# EAGLE library part 102A0-6212PC (library 3M_By_element14_Batch_1)
Mini Ribbon Connector
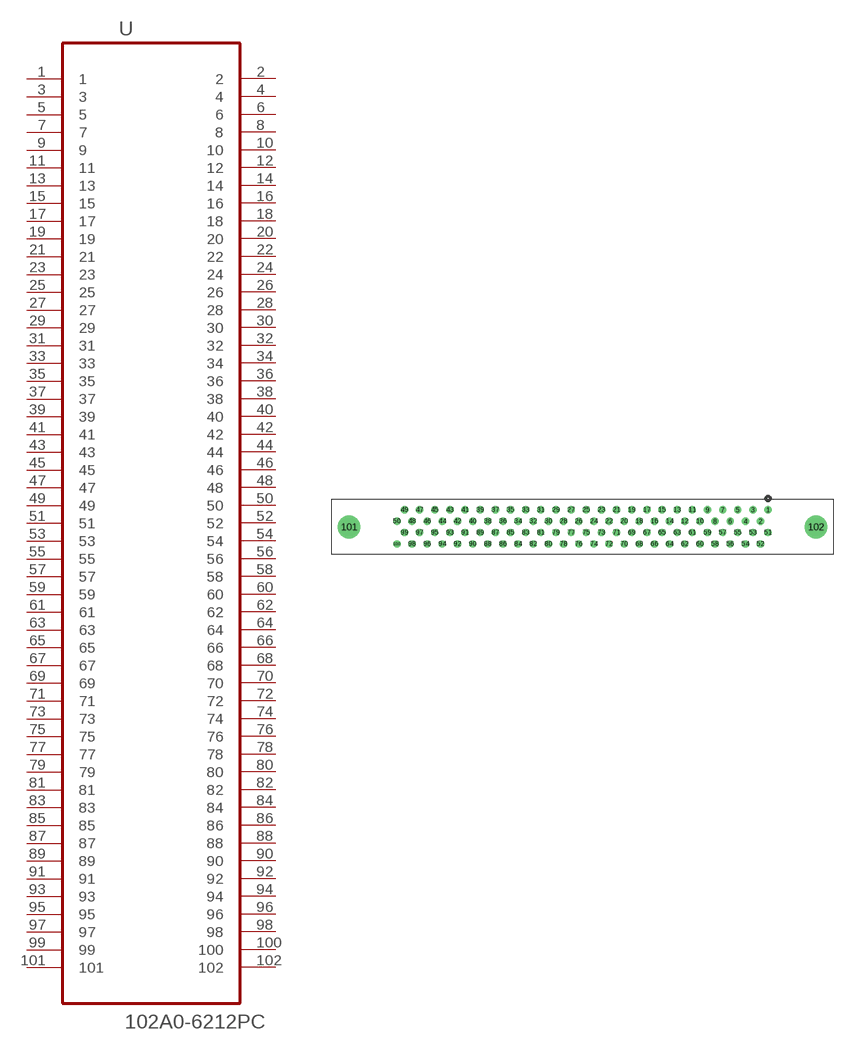
[diagram p13: symbol with the pads of 3M_102A0-6212PC; footprint 3M_102A0-6212PC]

Designator prefix U

## 102A0-6212PC (MPN: 102A0-6212PC; OC_FARNELL: 1462676; OC_NEWARK: 93K6328; PACKAGE: Mini Ribbon Connector-50Pin; SUPPLIER: 3M)  [3M_102A0-6212PC]
1  1  pas
2  2  pas
3  3  pas
4  4  pas
5  5  pas
6  6  pas
7  7  pas
8  8  pas
9  9  pas
10  10  pas
11  11  pas
12  12  pas
13  13  pas
14  14  pas
15  15  pas
16  16  pas
17  17  pas
18  18  pas
19  19  pas
20  20  pas
21  21  pas
22  22  pas
23  23  pas
24  24  pas
25  25  pas
26  26  pas
27  27  pas
28  28  pas
29  29  pas
30  30  pas
31  31  pas
32  32  pas
33  33  pas
34  34  pas
35  35  pas
36  36  pas
37  37  pas
38  38  pas
39  39  pas
40  40  pas
41  41  pas
42  42  pas
43  43  pas
44  44  pas
45  45  pas
46  46  pas
47  47  pas
48  48  pas
49  49  pas
50  50  pas
51  51  pas
52  52  pas
53  53  pas
54  54  pas
55  55  pas
56  56  pas
57  57  pas
58  58  pas
59  59  pas
60  60  pas
61  61  pas
62  62  pas
63  63  pas
64  64  pas
65  65  pas
66  66  pas
67  67  pas
68  68  pas
69  69  pas
70  70  pas
71  71  pas
72  72  pas
73  73  pas
74  74  pas
75  75  pas
76  76  pas
77  77  pas
78  78  pas
79  79  pas
80  80  pas
81  81  pas
82  82  pas
83  83  pas
84  84  pas
85  85  pas
86  86  pas
87  87  pas
88  88  pas
89  89  pas
90  90  pas
91  91  pas
92  92  pas
93  93  pas
94  94  pas
95  95  pas
96  96  pas
97  97  pas
98  98  pas
99  99  pas
100  100  pas
101  101  pas
102  102  pas

## Footprint 3M_102A0-6212PC (pad centres in mm)
drill 0.711: 1 62.23,5.715; 2 60.96,3.81; 3 59.69,5.715; 4 58.42,3.81; 5 57.15,5.715; 6 55.88,3.81; 7 54.61,5.715; 8 53.34,3.81; 9 52.07,5.715; 10 50.8,3.81; 11 49.53,5.715; 12 48.26,3.81; 13 46.99,5.715; 14 45.72,3.81; 15 44.45,5.715; 16 43.18,3.81; 17 41.91,5.715; 18 40.64,3.81; 19 39.37,5.715; 20 38.1,3.81; 21 36.83,5.715; 22 35.56,3.81; 23 34.29,5.715; 24 33.02,3.81; 25 31.75,5.715; 26 30.48,3.81; 27 29.21,5.715; 28 27.94,3.81; 29 26.67,5.715; 30 25.4,3.81; 31 24.13,5.715; 32 22.86,3.81; 33 21.59,5.715; 34 20.32,3.81; 35 19.05,5.715; 36 17.78,3.81; 37 16.51,5.715; 38 15.24,3.81; 39 13.97,5.715; 40 12.7,3.81; 41 11.43,5.715; 42 10.16,3.81; 43 8.89,5.715; 44 7.62,3.81; 45 6.35,5.715; 46 5.08,3.81; 47 3.81,5.715; 48 2.54,3.81; 49 1.27,5.715; 50 0,3.81; 51 62.23,1.905; 52 60.96,0; 53 59.69,1.905; 54 58.42,0; 55 57.15,1.905; 56 55.88,0; 57 54.61,1.905; 58 53.34,0; 59 52.07,1.905; 60 50.8,0; 61 49.53,1.905; 62 48.26,0; 63 46.99,1.905; 64 45.72,0; 65 44.45,1.905; 66 43.18,0; 67 41.91,1.905; 68 40.64,0; 69 39.37,1.905; 70 38.1,0; 71 36.83,1.905; 72 35.56,0; 73 34.29,1.905; 74 33.02,0; 75 31.75,1.905; 76 30.48,0; 77 29.21,1.905; 78 27.94,0; 79 26.67,1.905; 80 25.4,0; 81 24.13,1.905; 82 22.86,0; 83 21.59,1.905; 84 20.32,0; 85 19.05,1.905; 86 17.78,0; 87 16.51,1.905; 88 15.24,0; 89 13.97,1.905; 90 12.7,0; 91 11.43,1.905; 92 10.16,0; 93 8.89,1.905; 94 7.62,0; 95 6.35,1.905; 96 5.08,0; 97 3.81,1.905; 98 2.54,0; 99 1.27,1.905; 100 0,0
drill 2.794: 101 -8.026,2.845; 102 70.256,2.845